# Altium integrated library Linear Technology PMIC-Switching Reg LTC1174-LTC3901.IntLib: 2647 symbols (part 95 of 310)
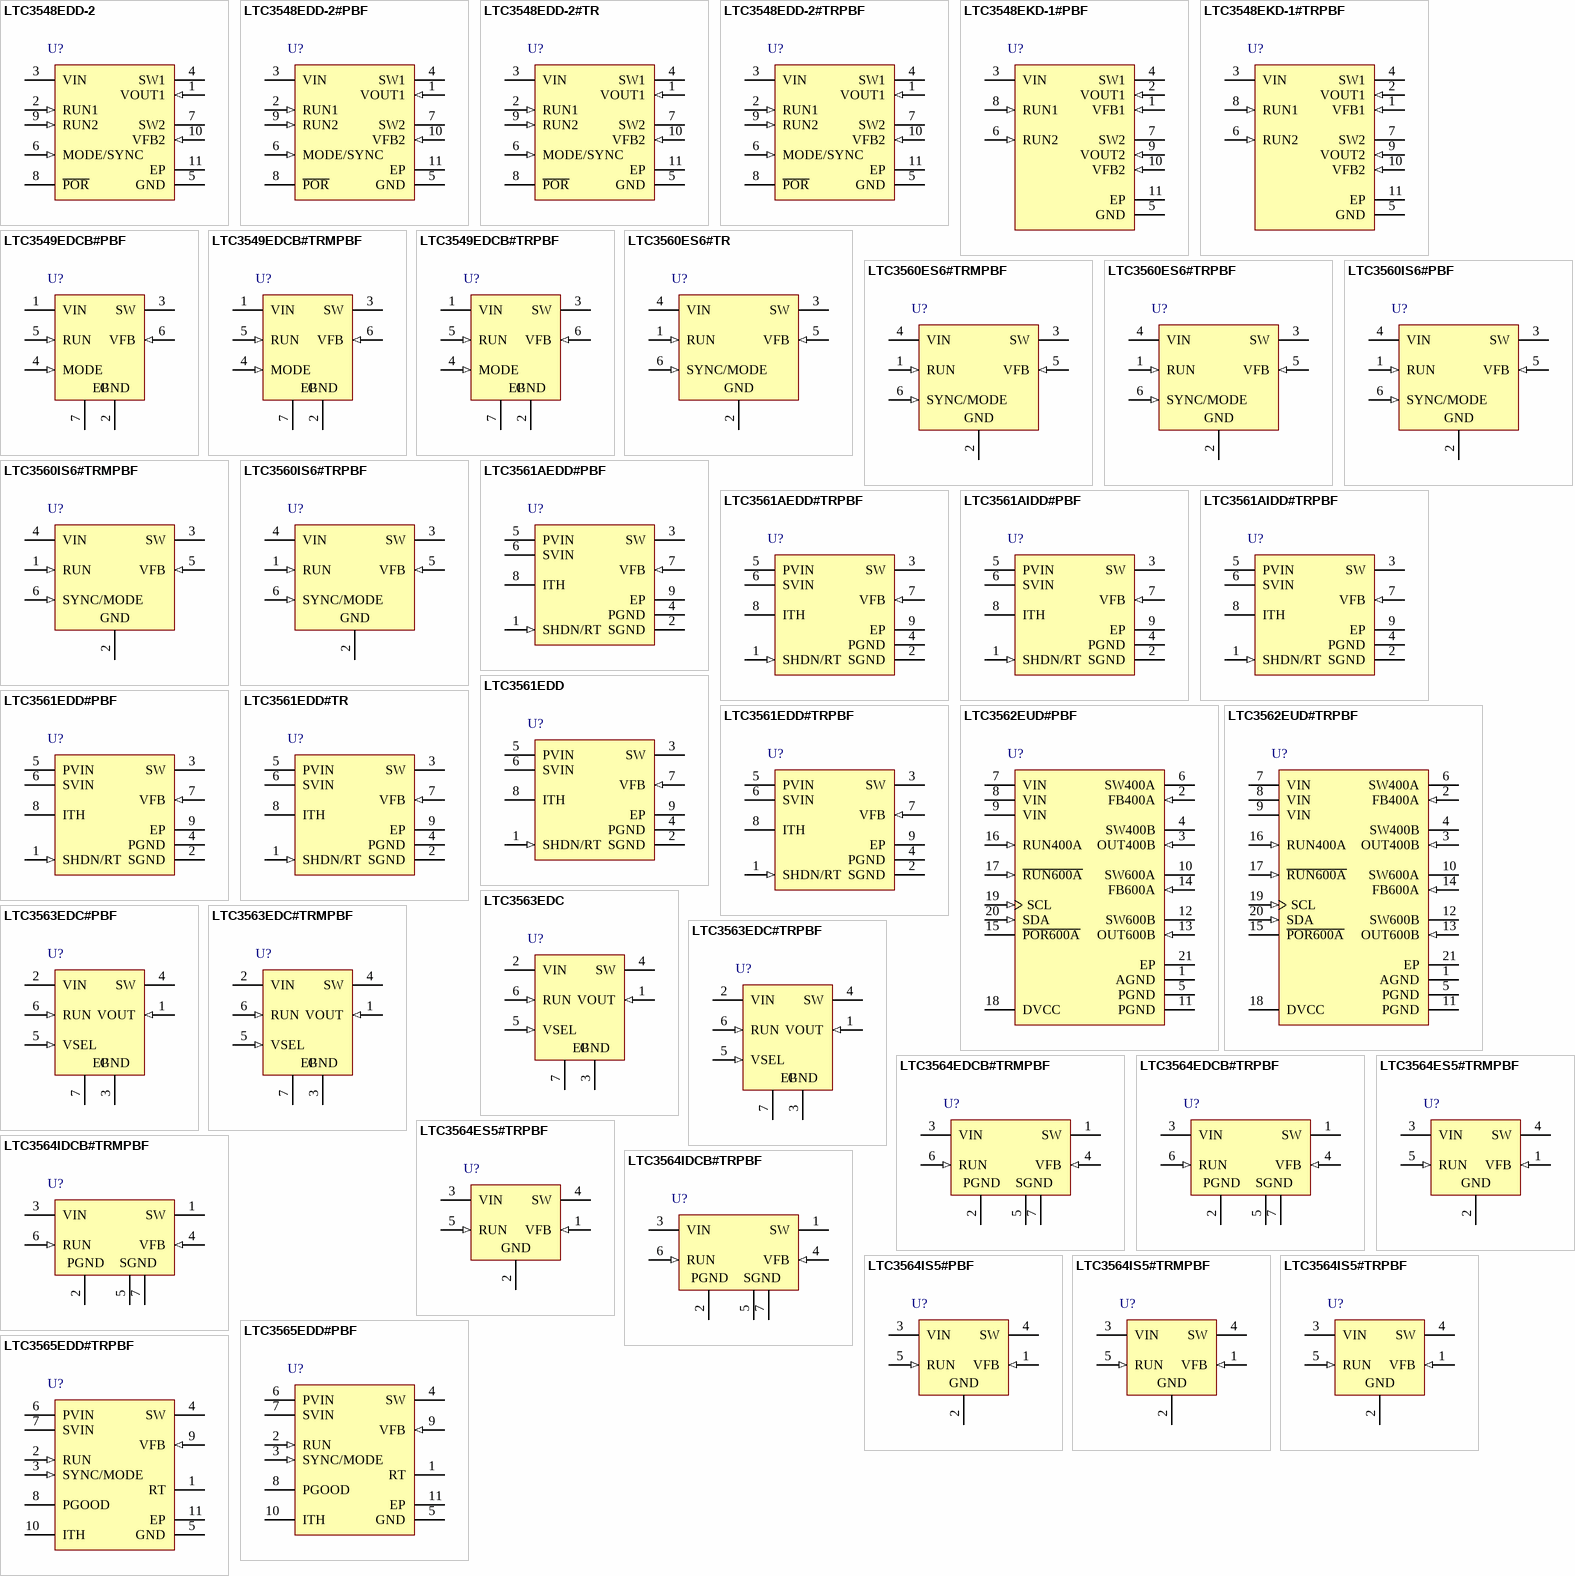
[diagram p169: symbols LTC3548EDD-2 to LTC3565EDD#TRPBF]

## LTC3561AIDD#PBF
designator U?
1 A, 4 MHz, Synchronous Step-Down DC/DC Converter, 8-pin SON (DD-8), -40 to 125 degC, Pb-Free; Manufacturer: Linear Technology; PartNumber: LTC3561AIDD#PBF; Number of Outputs: 1; PackageReference: DD8; PackageDescription: 8-Pin Plastic DFN, Body 3 x 3 mm, Pitch 0.5 mm; Supplier 1: Digi-Key; Supplier Part Number 1: LTC3561AIDD#PBF-ND; RoHS: TRUE; Code_JEDEC: M0-229
footprint LT-DD8_V (SON, 8-Leads, Body 3x3mm, Pitch 0.5mm, Thermal Pad 2.38x1.65mm)
pins: 1 SHDN/RT (in) "Combination Shutdown and Timing Resistor Pin. The oscillator frequency is programmed by connecting a resistor from this pin to ground. Forcing this pin to SVIN causes the device to be shut down. In shutdown all functions are (See Datasheet)", 2 SGND (power) "The Signal Ground Pin. All small signal components and compensation components should be connected to this ground (see Board Layout Considerations).", 3 SW (power) "The Switch Node Connection to the Inductor. This pin swings from PVIN to PGND.", 4 PGND (power) "Main Power Ground Pin. Connect to the (-) terminal of COUT, and (-) terminal of CIN.", 5 PVIN (power) "Main Supply Pin. Must be closely decoupled to PGND.", 6 SVIN (power) "The Signal Power Pin. All active circuitry is powered from this pin. Must be closely decoupled to SGND. SVIN must be greater than or equal to PVIN.", 7 VFB (in) "Receives the feedback voltage from the external resistive divider across the output. Nominal voltage for this pin is 0.8V.", 8 ITH "Error Amplifier Compensation Point. The current comparator threshold increases with this control voltage. Nominal voltage range for this pin is 0V to 1.5V.", 9 EP (power) "Thermal Connection to PCB. This pin should be soldered to ground to achieve rated thermal performance."

## LTC3561AIDD#TRPBF
designator U?
1 A, 4 MHz, Synchronous Step-Down DC/DC Converter, 8-pin SON (DD-8), -40 to 125 degC, Pb-Free, Tape and Reel; Manufacturer: Linear Technology; PartNumber: LTC3561AIDD#TRPBF; Number of Outputs: 1; PackageReference: DD8; PackageDescription: 8-Pin Plastic DFN, Body 3 x 3 mm, Pitch 0.5 mm; Supplier 1: Digi-Key; Supplier Part Number 1: LTC3561AIDD#TRPBF-ND; RoHS: TRUE; Code_JEDEC: M0-229
footprint LT-DD8_V (SON, 8-Leads, Body 3x3mm, Pitch 0.5mm, Thermal Pad 2.38x1.65mm)
pins: 1 SHDN/RT (in) "Combination Shutdown and Timing Resistor Pin. The oscillator frequency is programmed by connecting a resistor from this pin to ground. Forcing this pin to SVIN causes the device to be shut down. In shutdown all functions are (See Datasheet)", 2 SGND (power) "The Signal Ground Pin. All small signal components and compensation components should be connected to this ground (see Board Layout Considerations).", 3 SW (power) "The Switch Node Connection to the Inductor. This pin swings from PVIN to PGND.", 4 PGND (power) "Main Power Ground Pin. Connect to the (-) terminal of COUT, and (-) terminal of CIN.", 5 PVIN (power) "Main Supply Pin. Must be closely decoupled to PGND.", 6 SVIN (power) "The Signal Power Pin. All active circuitry is powered from this pin. Must be closely decoupled to SGND. SVIN must be greater than or equal to PVIN.", 7 VFB (in) "Receives the feedback voltage from the external resistive divider across the output. Nominal voltage for this pin is 0.8V.", 8 ITH "Error Amplifier Compensation Point. The current comparator threshold increases with this control voltage. Nominal voltage range for this pin is 0V to 1.5V.", 9 EP (power) "Thermal Connection to PCB. This pin should be soldered to ground to achieve rated thermal performance."

## LTC3561EDD
designator U?
1 A, 4 MHz, Synchronous Step-Down DC/DC Converter, 8-pin SON (DD-8), -40 to 85 degC; Manufacturer: Linear Technology; PartNumber: LTC3561EDD; Number of Outputs: 1; PackageReference: DD8; PackageDescription: 8-Pin Plastic DFN, Body 3 x 3 mm, Pitch 0.5 mm; Supplier 1: Newark; Supplier Part Number 1: 58M0800; RoHS: FALSE; Code_JEDEC: M0-229
footprint LT-DD8_V (SON, 8-Leads, Body 3x3mm, Pitch 0.5mm, Thermal Pad 2.38x1.65mm)
pins: 1 SHDN/RT (in) "Combination Shutdown and Timing Resistor Pin. The oscillator frequency is programmed by connecting a resistor from this pin to ground. Forcing this pin to SVIN causes the device to be shut down. In shutdown all functions are (See Datasheet)", 2 SGND (power) "The Signal Ground Pin. All small signal components and compensation components should be connected to this ground (see Board Layout Considerations).", 3 SW (power) "The Switch Node Connection to the Inductor. This pin swings from PVIN to PGND.", 4 PGND (power) "Main Power Ground Pin. Connect to the (-) terminal of COUT, and (-) terminal of CIN.", 5 PVIN (power) "Main Supply Pin. Must be closely decoupled to PGND.", 6 SVIN (power) "The Signal Power Pin. All active circuitry is powered from this pin. Must be closely decoupled to SGND. SVIN must be greater than or equal to PVIN.", 7 VFB (in) "Receives the feedback voltage from the external resistive divider across the output. Nominal voltage for this pin is 0.8V.", 8 ITH "Error Amplifier Compensation Point. The current comparator threshold increases with this control voltage. Nominal voltage range for this pin is 0V to 1.5V.", 9 EP (power) "Thermal Connection to PCB. This pin should be soldered to ground to achieve rated thermal performance."

## LTC3561EDD#PBF
designator U?
1 A, 4 MHz, Synchronous Step-Down DC/DC Converter, 8-pin SON (DD-8), -40 to 85 degC, Pb-Free; Manufacturer: Linear Technology; PartNumber: LTC3561EDD#PBF; Number of Outputs: 1; PackageReference: DD8; PackageDescription: 8-Pin Plastic DFN, Body 3 x 3 mm, Pitch 0.5 mm; Supplier 1: Digi-Key; Supplier Part Number 1: LTC3561EDD#PBF-ND; RoHS: TRUE; Code_JEDEC: M0-229
footprint LT-DD8_V (SON, 8-Leads, Body 3x3mm, Pitch 0.5mm, Thermal Pad 2.38x1.65mm)
pins: 1 SHDN/RT (in) "Combination Shutdown and Timing Resistor Pin. The oscillator frequency is programmed by connecting a resistor from this pin to ground. Forcing this pin to SVIN causes the device to be shut down. In shutdown all functions are (See Datasheet)", 2 SGND (power) "The Signal Ground Pin. All small signal components and compensation components should be connected to this ground (see Board Layout Considerations).", 3 SW (power) "The Switch Node Connection to the Inductor. This pin swings from PVIN to PGND.", 4 PGND (power) "Main Power Ground Pin. Connect to the (-) terminal of COUT, and (-) terminal of CIN.", 5 PVIN (power) "Main Supply Pin. Must be closely decoupled to PGND.", 6 SVIN (power) "The Signal Power Pin. All active circuitry is powered from this pin. Must be closely decoupled to SGND. SVIN must be greater than or equal to PVIN.", 7 VFB (in) "Receives the feedback voltage from the external resistive divider across the output. Nominal voltage for this pin is 0.8V.", 8 ITH "Error Amplifier Compensation Point. The current comparator threshold increases with this control voltage. Nominal voltage range for this pin is 0V to 1.5V.", 9 EP (power) "Thermal Connection to PCB. This pin should be soldered to ground to achieve rated thermal performance."

## LTC3561EDD#TR
designator U?
1 A, 4 MHz, Synchronous Step-Down DC/DC Converter, 8-pin SON (DD-8), -40 to 85 degC, Tape and Reel; Manufacturer: Linear Technology; PartNumber: LTC3561EDD#TR; Number of Outputs: 1; PackageReference: DD8; PackageDescription: 8-Pin Plastic DFN, Body 3 x 3 mm, Pitch 0.5 mm; RoHS: FALSE; Code_JEDEC: M0-229
footprint LT-DD8_V (SON, 8-Leads, Body 3x3mm, Pitch 0.5mm, Thermal Pad 2.38x1.65mm)
pins: 1 SHDN/RT (in) "Combination Shutdown and Timing Resistor Pin. The oscillator frequency is programmed by connecting a resistor from this pin to ground. Forcing this pin to SVIN causes the device to be shut down. In shutdown all functions are (See Datasheet)", 2 SGND (power) "The Signal Ground Pin. All small signal components and compensation components should be connected to this ground (see Board Layout Considerations).", 3 SW (power) "The Switch Node Connection to the Inductor. This pin swings from PVIN to PGND.", 4 PGND (power) "Main Power Ground Pin. Connect to the (-) terminal of COUT, and (-) terminal of CIN.", 5 PVIN (power) "Main Supply Pin. Must be closely decoupled to PGND.", 6 SVIN (power) "The Signal Power Pin. All active circuitry is powered from this pin. Must be closely decoupled to SGND. SVIN must be greater than or equal to PVIN.", 7 VFB (in) "Receives the feedback voltage from the external resistive divider across the output. Nominal voltage for this pin is 0.8V.", 8 ITH "Error Amplifier Compensation Point. The current comparator threshold increases with this control voltage. Nominal voltage range for this pin is 0V to 1.5V.", 9 EP (power) "Thermal Connection to PCB. This pin should be soldered to ground to achieve rated thermal performance."

## LTC3561EDD#TRPBF
designator U?
1 A, 4 MHz, Synchronous Step-Down DC/DC Converter, 8-pin SON (DD-8), -40 to 85 degC, Pb-Free, Tape and Reel; Manufacturer: Linear Technology; PartNumber: LTC3561EDD#TRPBF; Number of Outputs: 1; PackageReference: DD8; PackageDescription: 8-Pin Plastic DFN, Body 3 x 3 mm, Pitch 0.5 mm; Supplier 1: Digi-Key; Supplier Part Number 1: LTC3561EDD#TRPBF-ND; RoHS: TRUE; Code_JEDEC: M0-229
footprint LT-DD8_V (SON, 8-Leads, Body 3x3mm, Pitch 0.5mm, Thermal Pad 2.38x1.65mm)
pins: 1 SHDN/RT (in) "Combination Shutdown and Timing Resistor Pin. The oscillator frequency is programmed by connecting a resistor from this pin to ground. Forcing this pin to SVIN causes the device to be shut down. In shutdown all functions are (See Datasheet)", 2 SGND (power) "The Signal Ground Pin. All small signal components and compensation components should be connected to this ground (see Board Layout Considerations).", 3 SW (power) "The Switch Node Connection to the Inductor. This pin swings from PVIN to PGND.", 4 PGND (power) "Main Power Ground Pin. Connect to the (-) terminal of COUT, and (-) terminal of CIN.", 5 PVIN (power) "Main Supply Pin. Must be closely decoupled to PGND.", 6 SVIN (power) "The Signal Power Pin. All active circuitry is powered from this pin. Must be closely decoupled to SGND. SVIN must be greater than or equal to PVIN.", 7 VFB (in) "Receives the feedback voltage from the external resistive divider across the output. Nominal voltage for this pin is 0.8V.", 8 ITH "Error Amplifier Compensation Point. The current comparator threshold increases with this control voltage. Nominal voltage range for this pin is 0V to 1.5V.", 9 EP (power) "Thermal Connection to PCB. This pin should be soldered to ground to achieve rated thermal performance."

## LTC3562EUD#PBF
designator U?
I2C Quad Synchronous Step-Down DC/DC Regulator 2 x 600 mA, 2 x 400 mA, 20-pin QFN (UD-20), -40 to 85 degC, Pb-Free; Manufacturer: Linear Technology; PartNumber: LTC3562EUD#PBF; Number of Outputs: 4; PackageReference: UD-20; PackageDescription: 20-Pin Plastic QFN, Body 3 x 3 mm, Pitch 0.4 mm; Supplier 1: Digi-Key; Supplier Part Number 1: LTC3562EUD#PBF-ND; RoHS: TRUE
footprint LT-UD-20_N (QFN, 20-Leads, Body 3.1x3.1mm, Pitch 0.4mm, Thermal Pad 1.65x1.65mm, IPC Medium Density)
footprint LT-UD-20_L (QFN, 20-Leads, Body 3.1x3.1mm, Pitch 0.4mm, Thermal Pad 1.65x1.65mm, IPC High Density)
footprint LT-UD-20_M (QFN, 20-Leads, Body 3.1x3.1mm, Pitch 0.4mm, Thermal Pad 1.65x1.65mm, IPC Low Density)
pins: 1 AGND (power) "Analog Ground Pin. All small-signal components should connect to this ground, which in turn connects to PGND at one point.", 2 FB400A (in) "Feedback Pin for R400A. When the control loop is complete, this pin servos to 1 of 16 possible set-points based on the programmed value from the I2C serial port (see Table 4).", 3 OUT400B (in) "Output Voltage Feedback Pin for R400B. An I2C programmable internal resistor divider divides the output voltage down for comparison to the internal reference voltage. This pin converges to 1 of 128 possible set-points based (See Datasheet)", 4 SW400B (power) "Switch Node Connection to the Inductor for R400B. This pin connects to the drains of the internal power MOSFET switches of R400B.", 5 PGND (power) "Power Ground Pin. Connect this pin closely to the (-) terminal of CIN.", 6 SW400A (power) "Switch Node Connection to the Inductor for R400A. This pin connects to the drains of the internal power MOSFET switches of R400A.", 7 VIN (power) "Input Supply Pin. This pin must be closely decoupled to GND with a 10uF or greater ceramic capacitor.", 8 VIN (power) "Input Supply Pin. This pin must be closely decoupled to GND with a 10uF or greater ceramic capacitor.", 9 VIN (power) "Input Supply Pin. This pin must be closely decoupled to GND with a 10uF or greater ceramic capacitor.", 10 SW600A (power) "Switch Node Connection to the Inductor for R600A. This pin connects to the drains of the internal power MOSFET switches of R600A.", 11 PGND (power) "Power Ground Pin. Connect this pin closely to the (-) terminal of CIN.", 12 SW600B (power) "Switch Node Connection to the Inductor for R600B. This pin connects to the drains of the internal power MOSFET switches of R600B.", 13 OUT600B (in) "Output Voltage Feedback Pin for R600B. An I2C programmable internal resistor divider divides the output voltage down for comparison to the internal reference voltage. This pin converges to 1 of 128 possible set-points based (See Datasheet)", 14 FB600A (in) "Feedback Pin for R600A. When the control loop is complete, this pin servos to 1 of 16 possible set-points based on the programmed value from the I2C serial port (see Table 4).", 15 ~{POR600A} (hiz) "Power-On Reset for R600A. This open drain output goes high impedance after a 230ms delay after the output of R600A reaches 92% of its regulation voltage. This output gets pulled to GND whenever R600A falls below 92% of its (See Datasheet)", 16 RUN400A (in) "Enable Pin for R400A, Active High. Apply a voltage greater than 1V to enable this regulator", 17 ~{RUN600A} (in) "Enable Pin for R600A, Active Low. Apply a voltage less than 0.3V to enable this regulator.", 18 DVCC (power) "Supply Voltage for I2C Lines. This pin sets the logic reference level of the LTC3562. A UVLO circuit on the DVCC pin forces all registers to a default setting whenever DVCC is < 1V. Bypass to GND with a 0.1uF capacitor.", 19 SCL (in) "I2C Clock Input. Serial data is shifted one bit per clock to control the LTC3562. The logic level for SCL is referenced to DVCC", 20 SDA (in) "I2C Data Input. The logic level for SDA is referenced to DVCC.", 21 EP (power) "Ground. Must be soldered to PCB ground for electrical contact and optimum thermal performance."

## LTC3562EUD#TRPBF
designator U?
I2C Quad Synchronous Step-Down DC/DC Regulator 2 x 600 mA, 2 x 400 mA, 20-pin QFN (UD-20), -40 to 85 degC, Pb-Free, Tape and Reel; Manufacturer: Linear Technology; PartNumber: LTC3562EUD#TRPBF; Number of Outputs: 4; PackageReference: UD-20; PackageDescription: 20-Pin Plastic QFN, Body 3 x 3 mm, Pitch 0.4 mm; Supplier 1: Digi-Key; Supplier Part Number 1: LTC3562EUD#TRPBF-ND; RoHS: TRUE
footprint LT-UD-20_N (QFN, 20-Leads, Body 3.1x3.1mm, Pitch 0.4mm, Thermal Pad 1.65x1.65mm, IPC Medium Density)
footprint LT-UD-20_L (QFN, 20-Leads, Body 3.1x3.1mm, Pitch 0.4mm, Thermal Pad 1.65x1.65mm, IPC High Density)
footprint LT-UD-20_M (QFN, 20-Leads, Body 3.1x3.1mm, Pitch 0.4mm, Thermal Pad 1.65x1.65mm, IPC Low Density)
pins: 1 AGND (power) "Analog Ground Pin. All small-signal components should connect to this ground, which in turn connects to PGND at one point.", 2 FB400A (in) "Feedback Pin for R400A. When the control loop is complete, this pin servos to 1 of 16 possible set-points based on the programmed value from the I2C serial port (see Table 4).", 3 OUT400B (in) "Output Voltage Feedback Pin for R400B. An I2C programmable internal resistor divider divides the output voltage down for comparison to the internal reference voltage. This pin converges to 1 of 128 possible set-points based (See Datasheet)", 4 SW400B (power) "Switch Node Connection to the Inductor for R400B. This pin connects to the drains of the internal power MOSFET switches of R400B.", 5 PGND (power) "Power Ground Pin. Connect this pin closely to the (-) terminal of CIN.", 6 SW400A (power) "Switch Node Connection to the Inductor for R400A. This pin connects to the drains of the internal power MOSFET switches of R400A.", 7 VIN (power) "Input Supply Pin. This pin must be closely decoupled to GND with a 10uF or greater ceramic capacitor.", 8 VIN (power) "Input Supply Pin. This pin must be closely decoupled to GND with a 10uF or greater ceramic capacitor.", 9 VIN (power) "Input Supply Pin. This pin must be closely decoupled to GND with a 10uF or greater ceramic capacitor.", 10 SW600A (power) "Switch Node Connection to the Inductor for R600A. This pin connects to the drains of the internal power MOSFET switches of R600A.", 11 PGND (power) "Power Ground Pin. Connect this pin closely to the (-) terminal of CIN.", 12 SW600B (power) "Switch Node Connection to the Inductor for R600B. This pin connects to the drains of the internal power MOSFET switches of R600B.", 13 OUT600B (in) "Output Voltage Feedback Pin for R600B. An I2C programmable internal resistor divider divides the output voltage down for comparison to the internal reference voltage. This pin converges to 1 of 128 possible set-points based (See Datasheet)", 14 FB600A (in) "Feedback Pin for R600A. When the control loop is complete, this pin servos to 1 of 16 possible set-points based on the programmed value from the I2C serial port (see Table 4).", 15 ~{POR600A} (hiz) "Power-On Reset for R600A. This open drain output goes high impedance after a 230ms delay after the output of R600A reaches 92% of its regulation voltage. This output gets pulled to GND whenever R600A falls below 92% of its (See Datasheet)", 16 RUN400A (in) "Enable Pin for R400A, Active High. Apply a voltage greater than 1V to enable this regulator", 17 ~{RUN600A} (in) "Enable Pin for R600A, Active Low. Apply a voltage less than 0.3V to enable this regulator.", 18 DVCC (power) "Supply Voltage for I2C Lines. This pin sets the logic reference level of the LTC3562. A UVLO circuit on the DVCC pin forces all registers to a default setting whenever DVCC is < 1V. Bypass to GND with a 0.1uF capacitor.", 19 SCL (in) "I2C Clock Input. Serial data is shifted one bit per clock to control the LTC3562. The logic level for SCL is referenced to DVCC", 20 SDA (in) "I2C Data Input. The logic level for SDA is referenced to DVCC.", 21 EP (power) "Ground. Must be soldered to PCB ground for electrical contact and optimum thermal performance."

## LTC3563EDC
designator U?
500 mA, Synchronous Step-Down DC/DC Converter with Selectable Output Voltage, 6-pin SON (DC6-6), -40 to 85 degC; Manufacturer: Linear Technology; PartNumber: LTC3563EDC; Number of Outputs: 1; PackageReference: DC6-6; PackageDescription: 6-Pin Plastic DFN, Body 2 x 2 mm, Pitch 0.5 mm; RoHS: FALSE; Code_JEDEC: MO-229
footprint LT-DC6-6_V (SON, 6-Leads, Body 2x2mm, Pitch 0.5mm, Thermal Pad 1.42x0.61mm)
pins: 1 VOUT (in) "Output Voltage Feedback. An internal resistive divider divides the output voltage down for comparison to the internal 0.6V reference voltage.", 2 VIN (power) "Power Supply Pin. Must be closely decoupled to GND.", 3 GND (power) "Ground Pin.", 4 SW (power) "Switch Node Connection to Inductor. This pin connects to the drains of the internal main and synchronous power MOSFET switches.", 5 VSEL (in) "Output Voltage Selection Pin. This pin controls the regulated output voltage. When tied to GND, VOUT is 1.28V. When floating or connecting this pin to VIN, VOUT becomes 1.87V.", 6 RUN (in) "Converter Enable Pin. Forcing this pin above 1.5V enables this part, while forcing it below 0.3V causes the device to shut down. In shutdown, all functions are disabled drawing <1uA supply current. This pin must be driven; (See Datasheet)", 7 EP (power) "GND. The Exposed Pad is ground. It must be soldered to PCB ground to provide both electrical contact and optimum thermal performance."

## LTC3563EDC#PBF
designator U?
500 mA, Synchronous Step-Down DC/DC Converter with Selectable Output Voltage, 6-pin SON (DC6-6), -40 to 85 degC, Pb-Free; Manufacturer: Linear Technology; PartNumber: LTC3563EDC#PBF; Number of Outputs: 1; PackageReference: DC6-6; PackageDescription: 6-Pin Plastic DFN, Body 2 x 2 mm, Pitch 0.5 mm; RoHS: TRUE; Code_JEDEC: MO-229
footprint LT-DC6-6_V (SON, 6-Leads, Body 2x2mm, Pitch 0.5mm, Thermal Pad 1.42x0.61mm)
pins: 1 VOUT (in) "Output Voltage Feedback. An internal resistive divider divides the output voltage down for comparison to the internal 0.6V reference voltage.", 2 VIN (power) "Power Supply Pin. Must be closely decoupled to GND.", 3 GND (power) "Ground Pin.", 4 SW (power) "Switch Node Connection to Inductor. This pin connects to the drains of the internal main and synchronous power MOSFET switches.", 5 VSEL (in) "Output Voltage Selection Pin. This pin controls the regulated output voltage. When tied to GND, VOUT is 1.28V. When floating or connecting this pin to VIN, VOUT becomes 1.87V.", 6 RUN (in) "Converter Enable Pin. Forcing this pin above 1.5V enables this part, while forcing it below 0.3V causes the device to shut down. In shutdown, all functions are disabled drawing <1uA supply current. This pin must be driven; (See Datasheet)", 7 EP (power) "GND. The Exposed Pad is ground. It must be soldered to PCB ground to provide both electrical contact and optimum thermal performance."

## LTC3563EDC#TRMPBF
designator U?
500 mA, Synchronous Step-Down DC/DC Converter with Selectable Output Voltage, 6-pin SON (DC6-6), -40 to 85 degC, Pb-Free, Mini Tape and Reel; Manufacturer: Linear Technology; PartNumber: LTC3563EDC#TRMPBF; Number of Outputs: 1; PackageReference: DC6-6; PackageDescription: 6-Pin Plastic DFN, Body 2 x 2 mm, Pitch 0.5 mm; Supplier 1: Digi-Key; Supplier Part Number 1: LTC3563EDC#TRMPBF-ND; RoHS: TRUE; Code_JEDEC: MO-229
footprint LT-DC6-6_V (SON, 6-Leads, Body 2x2mm, Pitch 0.5mm, Thermal Pad 1.42x0.61mm)
pins: 1 VOUT (in) "Output Voltage Feedback. An internal resistive divider divides the output voltage down for comparison to the internal 0.6V reference voltage.", 2 VIN (power) "Power Supply Pin. Must be closely decoupled to GND.", 3 GND (power) "Ground Pin.", 4 SW (power) "Switch Node Connection to Inductor. This pin connects to the drains of the internal main and synchronous power MOSFET switches.", 5 VSEL (in) "Output Voltage Selection Pin. This pin controls the regulated output voltage. When tied to GND, VOUT is 1.28V. When floating or connecting this pin to VIN, VOUT becomes 1.87V.", 6 RUN (in) "Converter Enable Pin. Forcing this pin above 1.5V enables this part, while forcing it below 0.3V causes the device to shut down. In shutdown, all functions are disabled drawing <1uA supply current. This pin must be driven; (See Datasheet)", 7 EP (power) "GND. The Exposed Pad is ground. It must be soldered to PCB ground to provide both electrical contact and optimum thermal performance."

## LTC3563EDC#TRPBF
designator U?
500 mA, Synchronous Step-Down DC/DC Converter with Selectable Output Voltage, 6-pin SON (DC6-6), -40 to 85 degC, Pb-Free, Tape and Reel; Manufacturer: Linear Technology; PartNumber: LTC3563EDC#TRPBF; Number of Outputs: 1; PackageReference: DC6-6; PackageDescription: 6-Pin Plastic DFN, Body 2 x 2 mm, Pitch 0.5 mm; Supplier 1: Digi-Key; Supplier Part Number 1: LTC3563EDC#TRPBF-ND; RoHS: TRUE; Code_JEDEC: MO-229
footprint LT-DC6-6_V (SON, 6-Leads, Body 2x2mm, Pitch 0.5mm, Thermal Pad 1.42x0.61mm)
pins: 1 VOUT (in) "Output Voltage Feedback. An internal resistive divider divides the output voltage down for comparison to the internal 0.6V reference voltage.", 2 VIN (power) "Power Supply Pin. Must be closely decoupled to GND.", 3 GND (power) "Ground Pin.", 4 SW (power) "Switch Node Connection to Inductor. This pin connects to the drains of the internal main and synchronous power MOSFET switches.", 5 VSEL (in) "Output Voltage Selection Pin. This pin controls the regulated output voltage. When tied to GND, VOUT is 1.28V. When floating or connecting this pin to VIN, VOUT becomes 1.87V.", 6 RUN (in) "Converter Enable Pin. Forcing this pin above 1.5V enables this part, while forcing it below 0.3V causes the device to shut down. In shutdown, all functions are disabled drawing <1uA supply current. This pin must be driven; (See Datasheet)", 7 EP (power) "GND. The Exposed Pad is ground. It must be soldered to PCB ground to provide both electrical contact and optimum thermal performance."

## LTC3564EDCB#TRMPBF
designator U?
2.25 MHz, 1.25 A Synchronous Step-Down Regulator, 6-pin SON (DCB-6), -40 to 125 degC, Pb-Free, Mini Tape and Reel; Manufacturer: Linear Technology; PartNumber: LTC3564EDCB#TRMPBF; Number of Outputs: 1; PackageReference: DCB-6; PackageDescription: 6-Pin Plastic DFN, Body 2 x 3 mm, Pitch 0.5 mm; Supplier 1: Digi-Key; Supplier Part Number 1: LTC3564EDCB#TRMPBFTR-ND; RoHS: TRUE; Code_JEDEC: MO-229
footprint LT-DCB-6_V (SON, 6-Leads, Body 3x2mm, Pitch 0.5mm, Thermal Pad 1.65x1.35mm)
pins: 1 SW (power) "Switch Node Connection to Inductor. This pin connects to the drains of the internal main and synchronous power MOSFET switches.", 2 PGND (power) "Main Power Ground Pin. Connect to the (-) terminal of COUT, and (-) terminal of CIN.", 3 VIN (power) "Main Supply Pin. Must be closely decoupled to GND, Pin 2, with a 10uF or greater ceramic capacitor.", 4 VFB (in) "Feedback Pin. Receives the feedback voltage from an external resistive divider across the output.", 5 SGND (power) "The Signal Ground Pin. All small signal components and compensation components should be connected to this ground (see Board Layout Considerations.)", 6 RUN (in) "Run Control Input. Forcing this pin above 1.5V enables the part. Forcing this pin below 0.3V shuts down the device. In shutdown, all functions are disabled drawing <1uA supply current. Do not leave RUN floating.", 7 SGND (power) "The Signal Ground Pin. All small signal components and compensation components should be connected to this ground (see Board Layout Considerations.)"

## LTC3564EDCB#TRPBF
designator U?
2.25 MHz, 1.25 A Synchronous Step-Down Regulator, 6-pin SON (DCB-6), -40 to 125 degC, Pb-Free, Tape and Reel; Manufacturer: Linear Technology; PartNumber: LTC3564EDCB#TRPBF; Number of Outputs: 1; PackageReference: DCB-6; PackageDescription: 6-Pin Plastic DFN, Body 2 x 3 mm, Pitch 0.5 mm; Supplier 1: Digi-Key; Supplier Part Number 1: LTC3564EDCB#TRPBF-ND; RoHS: TRUE; Code_JEDEC: MO-229
footprint LT-DCB-6_V (SON, 6-Leads, Body 3x2mm, Pitch 0.5mm, Thermal Pad 1.65x1.35mm)
pins: 1 SW (power) "Switch Node Connection to Inductor. This pin connects to the drains of the internal main and synchronous power MOSFET switches.", 2 PGND (power) "Main Power Ground Pin. Connect to the (-) terminal of COUT, and (-) terminal of CIN.", 3 VIN (power) "Main Supply Pin. Must be closely decoupled to GND, Pin 2, with a 10uF or greater ceramic capacitor.", 4 VFB (in) "Feedback Pin. Receives the feedback voltage from an external resistive divider across the output.", 5 SGND (power) "The Signal Ground Pin. All small signal components and compensation components should be connected to this ground (see Board Layout Considerations.)", 6 RUN (in) "Run Control Input. Forcing this pin above 1.5V enables the part. Forcing this pin below 0.3V shuts down the device. In shutdown, all functions are disabled drawing <1uA supply current. Do not leave RUN floating.", 7 SGND (power) "The Signal Ground Pin. All small signal components and compensation components should be connected to this ground (see Board Layout Considerations.)"

## LTC3564ES5#TRMPBF
designator U?
2.25 MHz, 1.25 A Synchronous Step-Down Regulator, 5-pin SOT23 (S5-5), -40 to 125 degC, Pb-Free, Mini Tape and Reel; Manufacturer: Linear Technology; PartNumber: LTC3564ES5#TRMPBF; Number of Outputs: 1; PackageReference: S5-5; PackageDescription: 5-Pin Plastic TSOT-23, Body 1.63 x 2.90 mm, Pitch 0.95 mm; Supplier 1: Digi-Key; Supplier Part Number 1: LTC3564ES5#TRMPBFTR-ND; RoHS: TRUE; Code_JEDEC: MO-193
footprint LT-S5-5-TSOT-23_N (SOT23, 5-Leads, Body 2.90x1.63mm, Pitch 0.95mm, IPC Medium Density)
footprint LT-S5-5-TSOT-23_L (SOT23, 5-Leads, Body 2.90x1.63mm, Pitch 0.95mm, IPC High Density)
footprint LT-S5-5-TSOT-23_M (SOT23, 5-Leads, Body 2.90x1.63mm, Pitch 0.95mm, IPC Low Density)
pins: 1 VFB (in) "Feedback Pin. Receives the feedback voltage from an external resistive divider across the output.", 2 GND (power) "Ground Pin.", 3 VIN (power) "Main Supply Pin. Must be closely decoupled to GND, Pin 2, with a 10uF or greater ceramic capacitor.", 4 SW (power) "Switch Node Connection to Inductor. This pin connects to the drains of the internal main and synchronous power MOSFET switches.", 5 RUN (in) "Run Control Input. Forcing this pin above 1.5V enables the part. Forcing this pin below 0.3V shuts down the device. In shutdown, all functions are disabled drawing <1uA supply current. Do not leave RUN floating."

## LTC3564ES5#TRPBF
designator U?
2.25 MHz, 1.25 A Synchronous Step-Down Regulator, 5-pin SOT23 (S5-5), -40 to 125 degC, Pb-Free, Tape and Reel; Manufacturer: Linear Technology; PartNumber: LTC3564ES5#TRPBF; Number of Outputs: 1; PackageReference: S5-5; PackageDescription: 5-Pin Plastic TSOT-23, Body 1.63 x 2.90 mm, Pitch 0.95 mm; Supplier 1: Digi-Key; Supplier Part Number 1: LTC3564ES5#TRPBF-ND; RoHS: TRUE; Code_JEDEC: MO-193
footprint LT-S5-5-TSOT-23_N (SOT23, 5-Leads, Body 2.90x1.63mm, Pitch 0.95mm, IPC Medium Density)
footprint LT-S5-5-TSOT-23_L (SOT23, 5-Leads, Body 2.90x1.63mm, Pitch 0.95mm, IPC High Density)
footprint LT-S5-5-TSOT-23_M (SOT23, 5-Leads, Body 2.90x1.63mm, Pitch 0.95mm, IPC Low Density)
pins: 1 VFB (in) "Feedback Pin. Receives the feedback voltage from an external resistive divider across the output.", 2 GND (power) "Ground Pin.", 3 VIN (power) "Main Supply Pin. Must be closely decoupled to GND, Pin 2, with a 10uF or greater ceramic capacitor.", 4 SW (power) "Switch Node Connection to Inductor. This pin connects to the drains of the internal main and synchronous power MOSFET switches.", 5 RUN (in) "Run Control Input. Forcing this pin above 1.5V enables the part. Forcing this pin below 0.3V shuts down the device. In shutdown, all functions are disabled drawing <1uA supply current. Do not leave RUN floating."

## LTC3564IDCB#TRMPBF
designator U?
2.25 MHz, 1.25 A Synchronous Step-Down Regulator, 6-pin SON (DCB-6), -40 to 125 degC, Pb-Free, Mini Tape and Reel; Manufacturer: Linear Technology; PartNumber: LTC3564IDCB#TRMPBF; Number of Outputs: 1; PackageReference: DCB-6; PackageDescription: 6-Pin Plastic DFN, Body 2 x 3 mm, Pitch 0.5 mm; Supplier 1: Digi-Key; Supplier Part Number 1: LTC3564IDCB#TRMPBF-ND; RoHS: TRUE; Code_JEDEC: MO-229
footprint LT-DCB-6_V (SON, 6-Leads, Body 3x2mm, Pitch 0.5mm, Thermal Pad 1.65x1.35mm)
pins: 1 SW (power) "Switch Node Connection to Inductor. This pin connects to the drains of the internal main and synchronous power MOSFET switches.", 2 PGND (power) "Main Power Ground Pin. Connect to the (-) terminal of COUT, and (-) terminal of CIN.", 3 VIN (power) "Main Supply Pin. Must be closely decoupled to GND, Pin 2, with a 10uF or greater ceramic capacitor.", 4 VFB (in) "Feedback Pin. Receives the feedback voltage from an external resistive divider across the output.", 5 SGND (power) "The Signal Ground Pin. All small signal components and compensation components should be connected to this ground (see Board Layout Considerations.)", 6 RUN (in) "Run Control Input. Forcing this pin above 1.5V enables the part. Forcing this pin below 0.3V shuts down the device. In shutdown, all functions are disabled drawing <1uA supply current. Do not leave RUN floating.", 7 SGND (power) "The Signal Ground Pin. All small signal components and compensation components should be connected to this ground (see Board Layout Considerations.)"

## LTC3564IDCB#TRPBF
designator U?
2.25 MHz, 1.25 A Synchronous Step-Down Regulator, 6-pin SON (DCB-6), -40 to 125 degC, Pb-Free, Tape and Reel; Manufacturer: Linear Technology; PartNumber: LTC3564IDCB#TRPBF; Number of Outputs: 1; PackageReference: DCB-6; PackageDescription: 6-Pin Plastic DFN, Body 2 x 3 mm, Pitch 0.5 mm; Supplier 1: Digi-Key; Supplier Part Number 1: LTC3564IDCB#TRPBF-ND; RoHS: TRUE; Code_JEDEC: MO-229
footprint LT-DCB-6_V (SON, 6-Leads, Body 3x2mm, Pitch 0.5mm, Thermal Pad 1.65x1.35mm)
pins: 1 SW (power) "Switch Node Connection to Inductor. This pin connects to the drains of the internal main and synchronous power MOSFET switches.", 2 PGND (power) "Main Power Ground Pin. Connect to the (-) terminal of COUT, and (-) terminal of CIN.", 3 VIN (power) "Main Supply Pin. Must be closely decoupled to GND, Pin 2, with a 10uF or greater ceramic capacitor.", 4 VFB (in) "Feedback Pin. Receives the feedback voltage from an external resistive divider across the output.", 5 SGND (power) "The Signal Ground Pin. All small signal components and compensation components should be connected to this ground (see Board Layout Considerations.)", 6 RUN (in) "Run Control Input. Forcing this pin above 1.5V enables the part. Forcing this pin below 0.3V shuts down the device. In shutdown, all functions are disabled drawing <1uA supply current. Do not leave RUN floating.", 7 SGND (power) "The Signal Ground Pin. All small signal components and compensation components should be connected to this ground (see Board Layout Considerations.)"

## LTC3564IS5#PBF
designator U?
2.25 MHz, 1.25 A Synchronous Step-Down Regulator, 5-pin SOT23 (S5-5), -40 to 125 degC, Pb-Free; Manufacturer: Linear Technology; PartNumber: LTC3564IS5#PBF; Number of Outputs: 1; PackageReference: S5-5; PackageDescription: 5-Pin Plastic TSOT-23, Body 1.63 x 2.90 mm, Pitch 0.95 mm; Supplier 1: Newark; Supplier Part Number 1: 78T3221; RoHS: TRUE; Code_JEDEC: MO-193
footprint LT-S5-5-TSOT-23_N (SOT23, 5-Leads, Body 2.90x1.63mm, Pitch 0.95mm, IPC Medium Density)
footprint LT-S5-5-TSOT-23_L (SOT23, 5-Leads, Body 2.90x1.63mm, Pitch 0.95mm, IPC High Density)
footprint LT-S5-5-TSOT-23_M (SOT23, 5-Leads, Body 2.90x1.63mm, Pitch 0.95mm, IPC Low Density)
pins: 1 VFB (in) "Feedback Pin. Receives the feedback voltage from an external resistive divider across the output.", 2 GND (power) "Ground Pin.", 3 VIN (power) "Main Supply Pin. Must be closely decoupled to GND, Pin 2, with a 10uF or greater ceramic capacitor.", 4 SW (power) "Switch Node Connection to Inductor. This pin connects to the drains of the internal main and synchronous power MOSFET switches.", 5 RUN (in) "Run Control Input. Forcing this pin above 1.5V enables the part. Forcing this pin below 0.3V shuts down the device. In shutdown, all functions are disabled drawing <1uA supply current. Do not leave RUN floating."

## LTC3564IS5#TRMPBF
designator U?
2.25 MHz, 1.25 A Synchronous Step-Down Regulator, 5-pin SOT23 (S5-5), -40 to 125 degC, Pb-Free, Mini Tape and Reel; Manufacturer: Linear Technology; PartNumber: LTC3564IS5#TRMPBF; Number of Outputs: 1; PackageReference: S5-5; PackageDescription: 5-Pin Plastic TSOT-23, Body 1.63 x 2.90 mm, Pitch 0.95 mm; Supplier 1: Digi-Key; Supplier Part Number 1: LTC3564IS5#TRMPBF-ND; RoHS: TRUE; Code_JEDEC: MO-193
footprint LT-S5-5-TSOT-23_N (SOT23, 5-Leads, Body 2.90x1.63mm, Pitch 0.95mm, IPC Medium Density)
footprint LT-S5-5-TSOT-23_L (SOT23, 5-Leads, Body 2.90x1.63mm, Pitch 0.95mm, IPC High Density)
footprint LT-S5-5-TSOT-23_M (SOT23, 5-Leads, Body 2.90x1.63mm, Pitch 0.95mm, IPC Low Density)
pins: 1 VFB (in) "Feedback Pin. Receives the feedback voltage from an external resistive divider across the output.", 2 GND (power) "Ground Pin.", 3 VIN (power) "Main Supply Pin. Must be closely decoupled to GND, Pin 2, with a 10uF or greater ceramic capacitor.", 4 SW (power) "Switch Node Connection to Inductor. This pin connects to the drains of the internal main and synchronous power MOSFET switches.", 5 RUN (in) "Run Control Input. Forcing this pin above 1.5V enables the part. Forcing this pin below 0.3V shuts down the device. In shutdown, all functions are disabled drawing <1uA supply current. Do not leave RUN floating."

## LTC3564IS5#TRPBF
designator U?
2.25 MHz, 1.25 A Synchronous Step-Down Regulator, 5-pin SOT23 (S5-5), -40 to 125 degC, Pb-Free, Tape and Reel; Manufacturer: Linear Technology; PartNumber: LTC3564IS5#TRPBF; Number of Outputs: 1; PackageReference: S5-5; PackageDescription: 5-Pin Plastic TSOT-23, Body 1.63 x 2.90 mm, Pitch 0.95 mm; Supplier 1: Digi-Key; Supplier Part Number 1: LTC3564IS5#TRPBF-ND; RoHS: TRUE; Code_JEDEC: MO-193
footprint LT-S5-5-TSOT-23_N (SOT23, 5-Leads, Body 2.90x1.63mm, Pitch 0.95mm, IPC Medium Density)
footprint LT-S5-5-TSOT-23_L (SOT23, 5-Leads, Body 2.90x1.63mm, Pitch 0.95mm, IPC High Density)
footprint LT-S5-5-TSOT-23_M (SOT23, 5-Leads, Body 2.90x1.63mm, Pitch 0.95mm, IPC Low Density)
pins: 1 VFB (in) "Feedback Pin. Receives the feedback voltage from an external resistive divider across the output.", 2 GND (power) "Ground Pin.", 3 VIN (power) "Main Supply Pin. Must be closely decoupled to GND, Pin 2, with a 10uF or greater ceramic capacitor.", 4 SW (power) "Switch Node Connection to Inductor. This pin connects to the drains of the internal main and synchronous power MOSFET switches.", 5 RUN (in) "Run Control Input. Forcing this pin above 1.5V enables the part. Forcing this pin below 0.3V shuts down the device. In shutdown, all functions are disabled drawing <1uA supply current. Do not leave RUN floating."

## LTC3565EDD#PBF
designator U?
1.25 A, 4 MHz, Synchronous Step-Down DC/DC Converter, 10-pin SON (DD-10), -40 to 125 degC, Pb-Free; Manufacturer: Linear Technology; PartNumber: LTC3565EDD#PBF; Number of Outputs: 1; PackageReference: DD-10; PackageDescription: 10-Pin Plastic DFN, Body 3 x 3 mm, Pitch 0.5 mm; Supplier 1: Digi-Key; Supplier Part Number 1: LTC3565EDD#PBF-ND; RoHS: TRUE; Code_JEDEC: MO-229
footprint LT-DD-10_V (SON, 10-Leads, Body 3x3mm, Pitch 0.5mm, Thermal Pad 2.38x1.65mm)
pins: 1 RT "Timing Resistor Pin. The oscillator frequency is programmed by connecting a resistor from this pin to ground.", 2 RUN (in) "Converter Enable Pin. Forcing this pin above 1.5V enables this part, while forcing it below 0.3V causes the device to shut down. In shutdown, the device draws <1uA supply current. This pin must be driven; do not float.", 3 SYNC/MODE (in) "Combination Mode Selection and Oscillator Synchronization Pin. This pin controls the operation of the device. When tied to SVIN or GND, Burst Mode operation or pulse skipping mode is selected, respectively. If this pin is (See Datasheet)", 4 SW (power) "The Switch Node Connection to the Inductor. This pin swings from PVIN to GND.", 5 GND (power) "Main Power Ground Pin. Connect to the (-) terminal of COUT, and (-) terminal of CIN. The exposed pad must be soldered to electrical ground on the PCB.", 6 PVIN (power) "Main Supply Pin. Must be closely decoupled to GND.", 7 SVIN (power) "The Signal Power Pin. All active circuitry is powered from this pin. Must be closely decoupled to GND. SVIN must be greater than or equal to PVIN.", 8 PGOOD (oc) "The Power Good Pin. This common drain logic output is pulled to GND when the output voltage is not within +/-7% of regulation.", 9 VFB (in) "Receives the feedback voltage from the external resistive divider across the output. Nominal voltage for this pin is 0.6V.", 10 ITH "Error Amplifier Compensation Point. The current comparator threshold increases with this control voltage. Nominal voltage range for this pin is 0.4V to 1.4V.", 11 EP (power) "Main Power Ground Pin. Connect to the (-) terminal of COUT, and (-) terminal of CIN. The exposed pad must be soldered to electrical ground on the PCB."

## LTC3565EDD#TRPBF
designator U?
1.25 A, 4 MHz, Synchronous Step-Down DC/DC Converter, 10-pin SON (DD-10), -40 to 125 degC, Pb-Free, Tape and Reel; Manufacturer: Linear Technology; PartNumber: LTC3565EDD#TRPBF; Number of Outputs: 1; PackageReference: DD-10; PackageDescription: 10-Pin Plastic DFN, Body 3 x 3 mm, Pitch 0.5 mm; Supplier 1: Digi-Key; Supplier Part Number 1: LTC3565EDD#TRPBF-ND; RoHS: TRUE; Code_JEDEC: MO-229
footprint LT-DD-10_V (SON, 10-Leads, Body 3x3mm, Pitch 0.5mm, Thermal Pad 2.38x1.65mm)
pins: 1 RT "Timing Resistor Pin. The oscillator frequency is programmed by connecting a resistor from this pin to ground.", 2 RUN (in) "Converter Enable Pin. Forcing this pin above 1.5V enables this part, while forcing it below 0.3V causes the device to shut down. In shutdown, the device draws <1uA supply current. This pin must be driven; do not float.", 3 SYNC/MODE (in) "Combination Mode Selection and Oscillator Synchronization Pin. This pin controls the operation of the device. When tied to SVIN or GND, Burst Mode operation or pulse skipping mode is selected, respectively. If this pin is (See Datasheet)", 4 SW (power) "The Switch Node Connection to the Inductor. This pin swings from PVIN to GND.", 5 GND (power) "Main Power Ground Pin. Connect to the (-) terminal of COUT, and (-) terminal of CIN. The exposed pad must be soldered to electrical ground on the PCB.", 6 PVIN (power) "Main Supply Pin. Must be closely decoupled to GND.", 7 SVIN (power) "The Signal Power Pin. All active circuitry is powered from this pin. Must be closely decoupled to GND. SVIN must be greater than or equal to PVIN.", 8 PGOOD (oc) "The Power Good Pin. This common drain logic output is pulled to GND when the output voltage is not within +/-7% of regulation.", 9 VFB (in) "Receives the feedback voltage from the external resistive divider across the output. Nominal voltage for this pin is 0.6V.", 10 ITH "Error Amplifier Compensation Point. The current comparator threshold increases with this control voltage. Nominal voltage range for this pin is 0.4V to 1.4V.", 11 EP (power) "Main Power Ground Pin. Connect to the (-) terminal of COUT, and (-) terminal of CIN. The exposed pad must be soldered to electrical ground on the PCB."

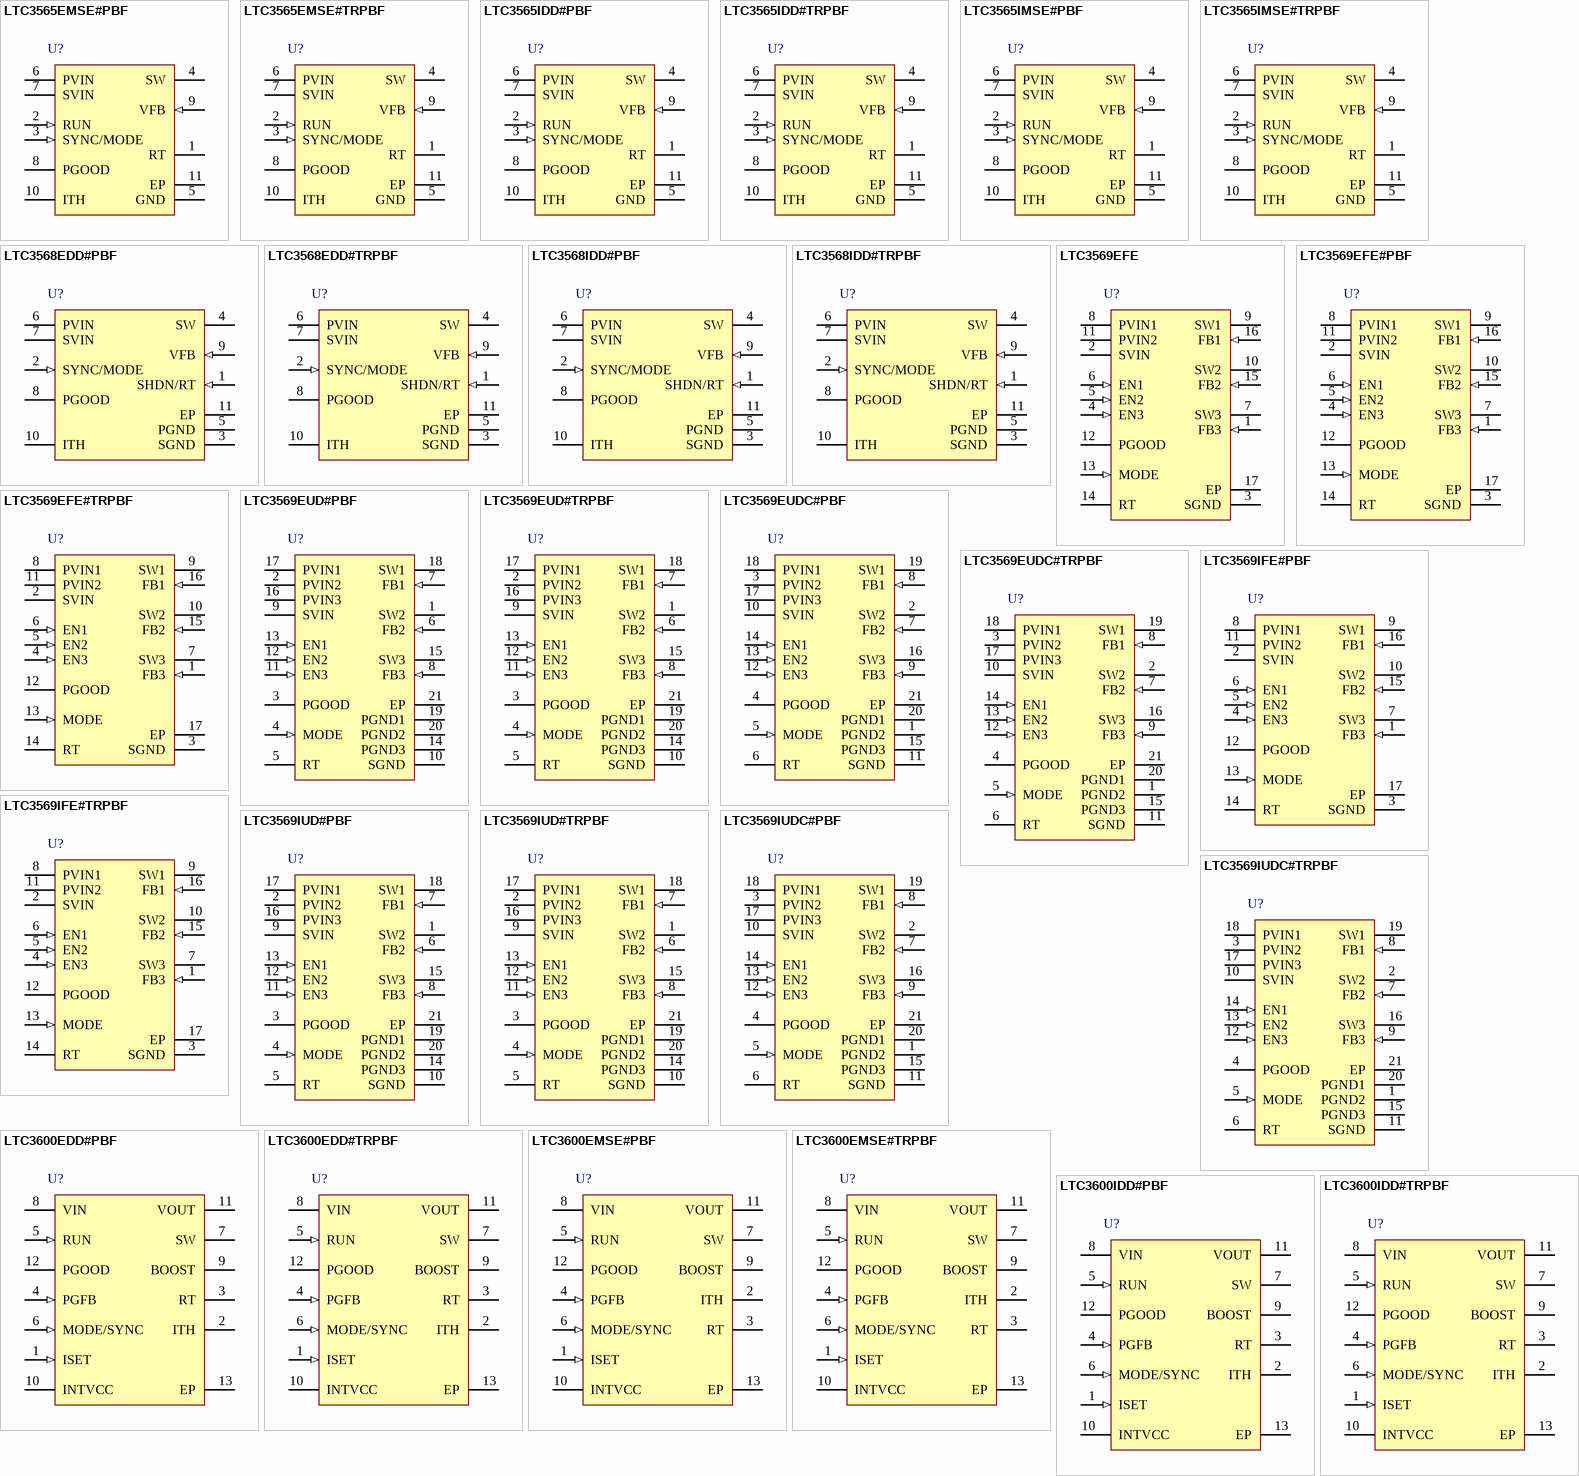
[diagram p35: symbols LTC3565EMSE#PBF to LTC3600IDD#TRPBF]

## LTC3565EMSE#PBF
designator U?
1.25 A, 4 MHz, Synchronous Step-Down DC/DC Converter, 10-pin SOP (MSE-10-EDP), -40 to 125 degC, Pb-Free; Manufacturer: Linear Technology; PartNumber: LTC3565EMSE#PBF; Number of Outputs: 1; PackageReference: MSE-10; PackageDescription: 10-Pin Plastic MSOP, Exposed Die Pad, Body 3 x 3 mm, Pitch 0.5 mm; Supplier 1: Digi-Key; Supplier Part Number 1: LTC3565EMSE#PBF-ND; RoHS: TRUE
footprint LT-MSE-10-EDP_N (SOP, 10-Leads, Body 3.1x3.1mm, Pitch 0.5mm, Thermal Pad 1.88x1.68mm, IPC Medium Density)
footprint LT-MSE-10-EDP_L (SOP, 10-Leads, Body 3.1x3.1mm, Pitch 0.5mm, Thermal Pad 1.88x1.68mm, IPC High Density)
footprint LT-MSE-10-EDP_M (SOP, 10-Leads, Body 3.1x3.1mm, Pitch 0.5mm, Thermal Pad 1.88x1.68mm, IPC Low Density)
pins: 1 RT "Timing Resistor Pin. The oscillator frequency is programmed by connecting a resistor from this pin to ground.", 2 RUN (in) "Converter Enable Pin. Forcing this pin above 1.5V enables this part, while forcing it below 0.3V causes the device to shut down. In shutdown, the device draws <1uA supply current. This pin must be driven; do not float.", 3 SYNC/MODE (in) "Combination Mode Selection and Oscillator Synchronization Pin. This pin controls the operation of the device. When tied to SVIN or GND, Burst Mode operation or pulse skipping mode is selected, respectively. If this pin is (See Datasheet)", 4 SW (power) "The Switch Node Connection to the Inductor. This pin swings from PVIN to GND.", 5 GND (power) "Main Power Ground Pin. Connect to the (-) terminal of COUT, and (-) terminal of CIN. The exposed pad must be soldered to electrical ground on the PCB.", 6 PVIN (power) "Main Supply Pin. Must be closely decoupled to GND.", 7 SVIN (power) "The Signal Power Pin. All active circuitry is powered from this pin. Must be closely decoupled to GND. SVIN must be greater than or equal to PVIN.", 8 PGOOD (oc) "The Power Good Pin. This common drain logic output is pulled to GND when the output voltage is not within +/-7% of regulation.", 9 VFB (in) "Receives the feedback voltage from the external resistive divider across the output. Nominal voltage for this pin is 0.6V.", 10 ITH "Error Amplifier Compensation Point. The current comparator threshold increases with this control voltage. Nominal voltage range for this pin is 0.4V to 1.4V.", 11 EP (power) "Main Power Ground Pin. Connect to the (-) terminal of COUT, and (-) terminal of CIN. The exposed pad must be soldered to electrical ground on the PCB."

## LTC3565EMSE#TRPBF
designator U?
1.25 A, 4 MHz, Synchronous Step-Down DC/DC Converter, 10-pin SOP (MSE-10-EDP), -40 to 125 degC, Pb-Free, Tape and Reel; Manufacturer: Linear Technology; PartNumber: LTC3565EMSE#TRPBF; Number of Outputs: 1; PackageReference: MSE-10; PackageDescription: 10-Pin Plastic MSOP, Exposed Die Pad, Body 3 x 3 mm, Pitch 0.5 mm; Supplier 1: Digi-Key; Supplier Part Number 1: LTC3565EMSE#TRPBF-ND; RoHS: TRUE
footprint LT-MSE-10-EDP_N (SOP, 10-Leads, Body 3.1x3.1mm, Pitch 0.5mm, Thermal Pad 1.88x1.68mm, IPC Medium Density)
footprint LT-MSE-10-EDP_L (SOP, 10-Leads, Body 3.1x3.1mm, Pitch 0.5mm, Thermal Pad 1.88x1.68mm, IPC High Density)
footprint LT-MSE-10-EDP_M (SOP, 10-Leads, Body 3.1x3.1mm, Pitch 0.5mm, Thermal Pad 1.88x1.68mm, IPC Low Density)
pins: 1 RT "Timing Resistor Pin. The oscillator frequency is programmed by connecting a resistor from this pin to ground.", 2 RUN (in) "Converter Enable Pin. Forcing this pin above 1.5V enables this part, while forcing it below 0.3V causes the device to shut down. In shutdown, the device draws <1uA supply current. This pin must be driven; do not float.", 3 SYNC/MODE (in) "Combination Mode Selection and Oscillator Synchronization Pin. This pin controls the operation of the device. When tied to SVIN or GND, Burst Mode operation or pulse skipping mode is selected, respectively. If this pin is (See Datasheet)", 4 SW (power) "The Switch Node Connection to the Inductor. This pin swings from PVIN to GND.", 5 GND (power) "Main Power Ground Pin. Connect to the (-) terminal of COUT, and (-) terminal of CIN. The exposed pad must be soldered to electrical ground on the PCB.", 6 PVIN (power) "Main Supply Pin. Must be closely decoupled to GND.", 7 SVIN (power) "The Signal Power Pin. All active circuitry is powered from this pin. Must be closely decoupled to GND. SVIN must be greater than or equal to PVIN.", 8 PGOOD (oc) "The Power Good Pin. This common drain logic output is pulled to GND when the output voltage is not within +/-7% of regulation.", 9 VFB (in) "Receives the feedback voltage from the external resistive divider across the output. Nominal voltage for this pin is 0.6V.", 10 ITH "Error Amplifier Compensation Point. The current comparator threshold increases with this control voltage. Nominal voltage range for this pin is 0.4V to 1.4V.", 11 EP (power) "Main Power Ground Pin. Connect to the (-) terminal of COUT, and (-) terminal of CIN. The exposed pad must be soldered to electrical ground on the PCB."

## LTC3565IDD#PBF
designator U?
1.25 A, 4 MHz, Synchronous Step-Down DC/DC Converter, 10-pin SON (DD-10), -40 to 125 degC, Pb-Free; Manufacturer: Linear Technology; PartNumber: LTC3565IDD#PBF; Number of Outputs: 1; PackageReference: DD-10; PackageDescription: 10-Pin Plastic DFN, Body 3 x 3 mm, Pitch 0.5 mm; Supplier 1: Digi-Key; Supplier Part Number 1: LTC3565IDD#PBF-ND; RoHS: TRUE; Code_JEDEC: MO-229
footprint LT-DD-10_V (SON, 10-Leads, Body 3x3mm, Pitch 0.5mm, Thermal Pad 2.38x1.65mm)
pins: 1 RT "Timing Resistor Pin. The oscillator frequency is programmed by connecting a resistor from this pin to ground.", 2 RUN (in) "Converter Enable Pin. Forcing this pin above 1.5V enables this part, while forcing it below 0.3V causes the device to shut down. In shutdown, the device draws <1uA supply current. This pin must be driven; do not float.", 3 SYNC/MODE (in) "Combination Mode Selection and Oscillator Synchronization Pin. This pin controls the operation of the device. When tied to SVIN or GND, Burst Mode operation or pulse skipping mode is selected, respectively. If this pin is (See Datasheet)", 4 SW (power) "The Switch Node Connection to the Inductor. This pin swings from PVIN to GND.", 5 GND (power) "Main Power Ground Pin. Connect to the (-) terminal of COUT, and (-) terminal of CIN. The exposed pad must be soldered to electrical ground on the PCB.", 6 PVIN (power) "Main Supply Pin. Must be closely decoupled to GND.", 7 SVIN (power) "The Signal Power Pin. All active circuitry is powered from this pin. Must be closely decoupled to GND. SVIN must be greater than or equal to PVIN.", 8 PGOOD (oc) "The Power Good Pin. This common drain logic output is pulled to GND when the output voltage is not within +/-7% of regulation.", 9 VFB (in) "Receives the feedback voltage from the external resistive divider across the output. Nominal voltage for this pin is 0.6V.", 10 ITH "Error Amplifier Compensation Point. The current comparator threshold increases with this control voltage. Nominal voltage range for this pin is 0.4V to 1.4V.", 11 EP (power) "Main Power Ground Pin. Connect to the (-) terminal of COUT, and (-) terminal of CIN. The exposed pad must be soldered to electrical ground on the PCB."